# EAGLE library part SN74LVC1G0832 (library 1_spektrak)
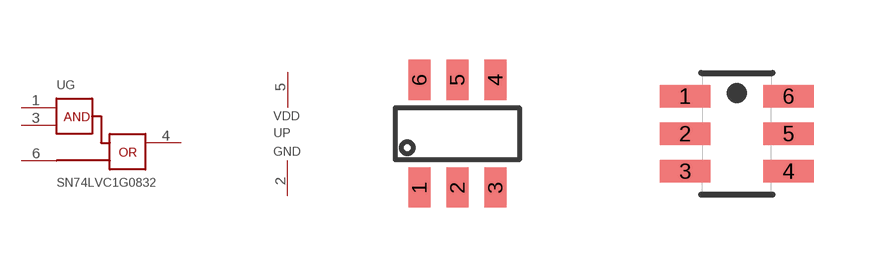
[diagram p14: symbol with the pads of SOT23-6-OLD; footprints SOT23-6-OLD, SOT23-6]

Designator prefix U; gates G=AND-OR P=PWRGND

## SN74LVC1G0832'OLD'  [SOT23-6-OLD]
1  G:A  in
2  P:GND  pwr
3  G:B  in
4  G:Y  out
5  P:VDD  pwr
6  G:C  in

## SN74LVC1G0832  [SOT23-6]
Pads as for SOT23-6-OLD

## Footprint SOT23-6-OLD (pad centres in mm)
smd 0.55 x 1: 1 -1,-1.4; 2 -0.05,-1.4; 3 0.9,-1.4; 4 0.9,1.3; 5 -0.05,1.3; 6 -1,1.3

## Footprint SOT23-6 (pad centres in mm)
smd 1.27 x 0.559: 1 -1.295,0.94; 2 -1.295,0; 3 -1.295,-0.94; 4 1.295,-0.94; 5 1.295,0; 6 1.295,0.94